# Altium footprint library mini-360.PcbLib: 1 footprints
Each footprint in its own frame and in the unit in brackets; x right, y up, seen from the top. Pads: shape width x height; smd on the part's side, far side on the other; paste and mask are expansions set on the pad; w line width, h text height; cw(c..) or ccw(c..) is an arc to the next point about the centre after c.
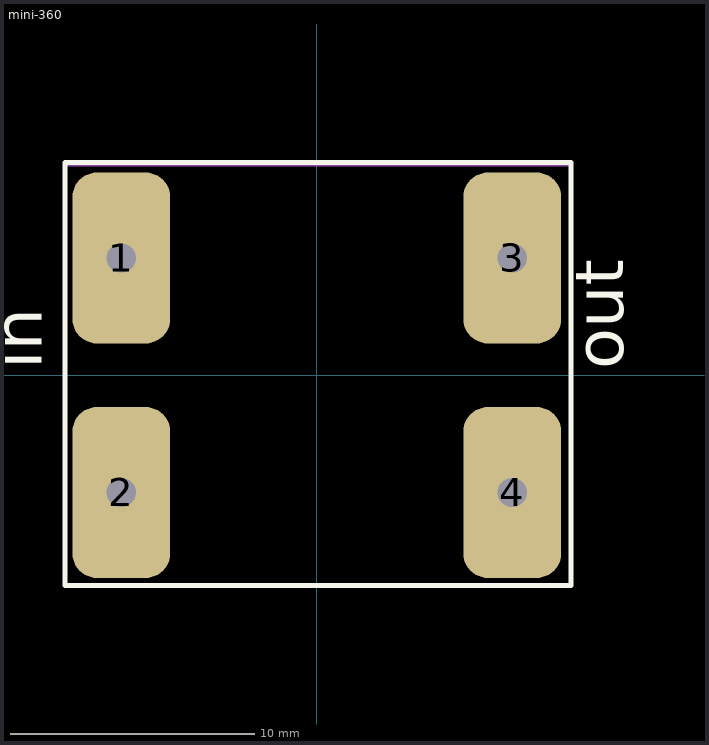
[diagram p0: the footprint, top view; thin cyan lines are the x and y axes]

## mini-360 [mm]
height 0.55
pads (4):
  rrect50% 4x7 / inner rrect50% 4x7 / far side round 2 hole 1.2: 1(-8,4.8) 2(-8,-4.8) 3(8,4.8) 4(8,-4.8)
Top Overlay:
  lines w0.2: -10.3,-8.6 -10.3,8.7 10.4,8.7 10.4,-8.6 -10.3,-8.6
  text "in" at -11.254,0.254 h2
  text "out" at 12.546,0.254 h2
Top Assembly:
  lines w0.1: -10.3,-8.6 10.4,-8.6 10.4,-5.2 10.4,-2.6 10.4,8.6 -10.3,8.6 -10.3,-8.6
  text "'.Designator'" at -0.975,-0.35 h0.7
3D body "User Library-mini360 STEP DOWN DC DC 2.STEP": height 4.5, standoff 0.3, extent -9.093,-6 9,6